# Altium footprint library 06031C682KAT2A.PcbLib: 1 footprints
Each footprint in its own frame and in the unit in brackets; x right, y up, seen from the top. Pads: shape width x height; smd on the part's side, far side on the other; paste and mask are expansions set on the pad; w line width, h text height; cw(c..) or ccw(c..) is an arc to the next point about the centre after c.
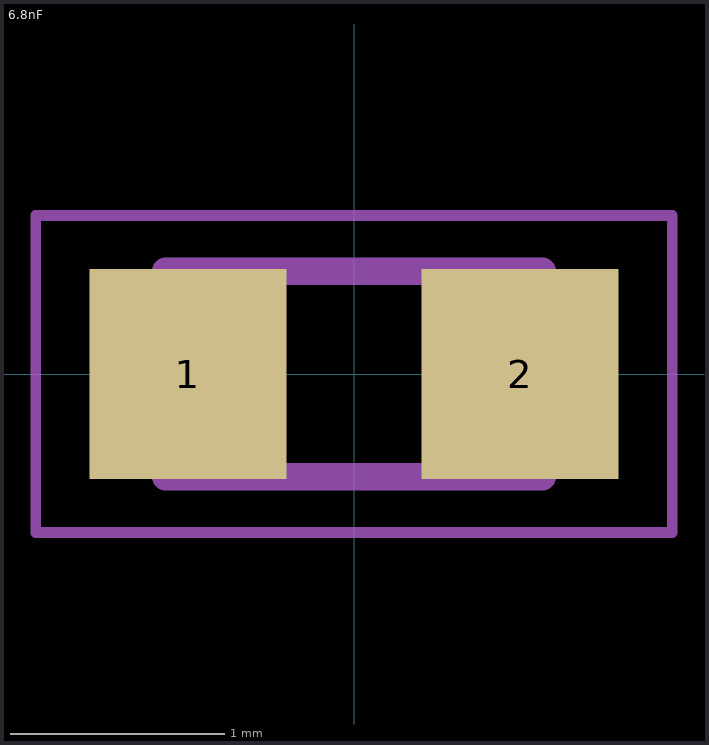
[diagram p0: the footprint, top view; thin cyan lines are the x and y axes]

## 6.8nF [mm]
pads (2):
  rect 0.92x0.98 smd: 1(-0.775,0) 2(0.775,0)
Mechanical 13:
  lines w0.127: -0.88,-0.48 -0.88,0.48 ; -0.88,-0.48 0.88,-0.48 ; -0.88,-0.48 -0.88,0.48 ; -0.88,-0.48 0.88,-0.48 ; -0.88,0.48 0.88,0.48 ; -0.88,0.48 0.88,0.48 ; 0.88,-0.48 0.88,0.48 ; 0.88,-0.48 0.88,0.48
Mechanical 15:
  lines w0.05: -1.485,-0.74 -1.485,0.74 1.485,0.74 1.485,-0.74 -1.485,-0.74